# Altium schematic symbol library SMB_TVS_Diode.SchLib: 1 symbol
Pins are listed as number, name and electrical type; pins without a type are passive.

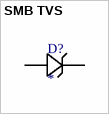
[diagram p0: symbol SMB TVS]

## SMB TVS
designator D?
footprint SMB
pins: 1, 2